# Altium integrated library IRIS-FE-01-B.IntLib: 21 symbols
Pins are listed as number, name and electrical type; pins without a type are passive.

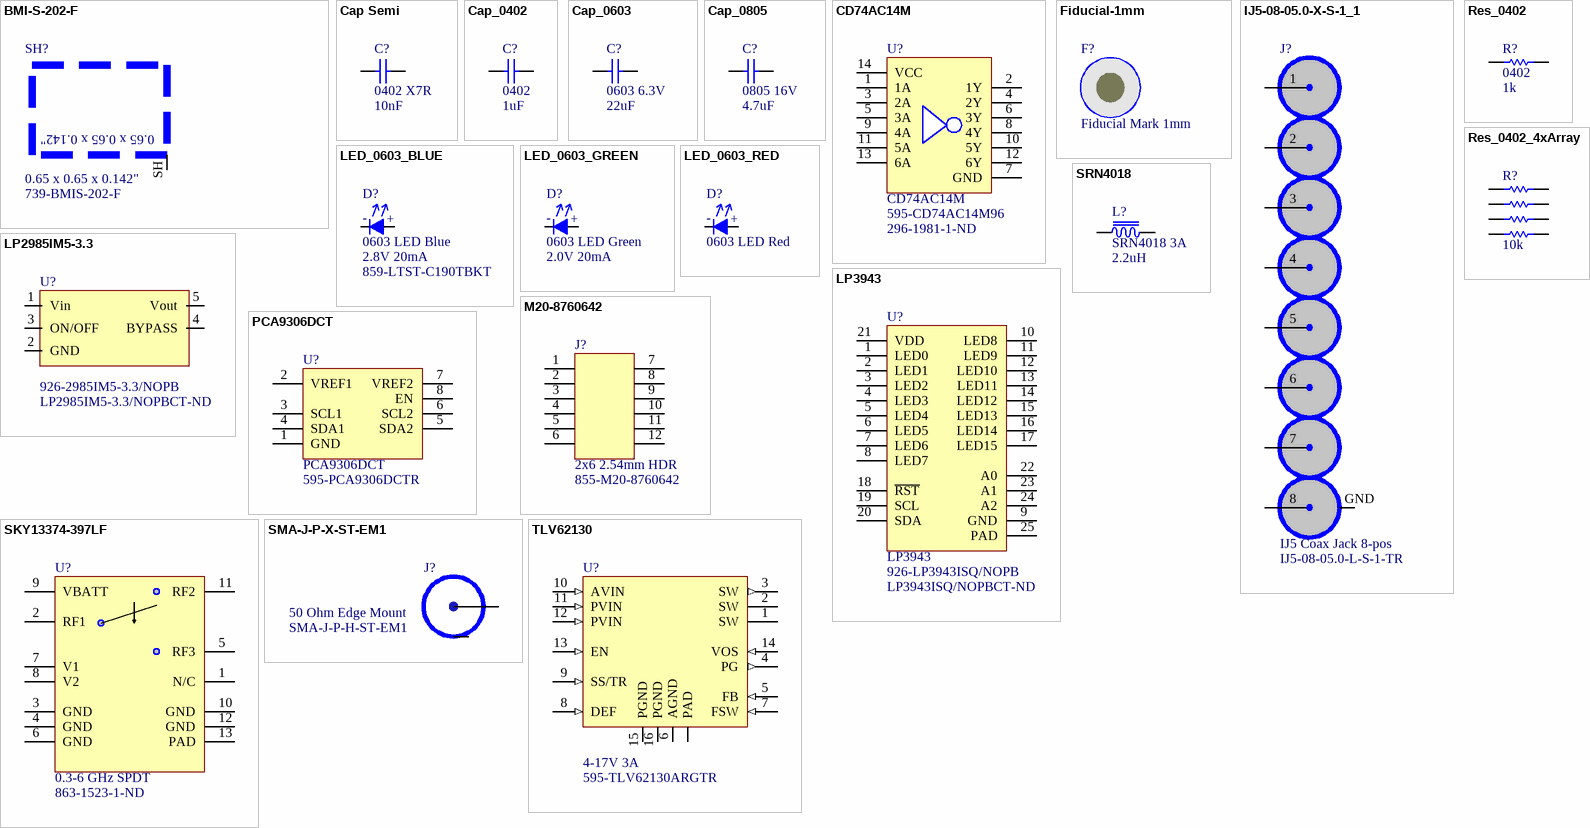
[diagram p0: symbols BMI-S-202-F to TLV62130]

## BMI-S-202-F
designator SH?, comment 0.65 x 0.65 x 0.142"  Supplier Part Number 1: 739-BMIS-202-F
EMI Shield 0.65 x 0.65 x 0.142" LairdTech 2-pc; Supplier 1: Mouser
footprint BMIS-202 (LairdTech BMI-S-202-F Two-piece Shield, 0.65x0.65x0.142")
pins: SH

## Cap Semi
designator C?, comment 0402 X7R  value 10nF
Capacitor (Semiconductor SIM Model); Published: 8-Jun-2000; LatestRevisionDate: 29-May-2009; LatestRevisionNote: IPC-7351 Footprint Added.; PackageReference: C1206; Publisher: Altium Limited; PackageDescription: Chip Capacitor; Supplier 1: Mouser; Supplier Part Number 1: 81-GCM155R71H103KA5D
footprint 0402_SMT_CAP (0402 Chip Cap, Res, Ind)
pins: 1, 2

## Cap_0402
designator C?, comment 0402  value 1uF
0402 SMT Capacitor; Supplier 1: Mouser; Supplier Part Number 1: 81-GRM155R61E105KA2D
footprint 0402_SMT_CAP (0402 Chip Cap, Res, Ind)
pins: 1, 2

## Cap_0603
designator C?, comment 0603 6.3V  value 22uF
0603 SMT Capacitor; Supplier 1: Mouser; Supplier Part Number 1: 81-GRM188R60J226ME0D
footprint 0603_SMT_CAP (0603 Chip Cap)
pins: 1, 2

## Cap_0805
designator C?, comment 0805 16V  value 4.7uF
0805 SMT Capacitor; Supplier 1: Mouser; Supplier Part Number 1: 81-GRJ21BR71C475KE1L
footprint 0805_SMT_CAP (0805 Chip Capacitor)
pins: 1, 2

## CD74AC14M
designator U?  Supplier Part Number 1: 595-CD74AC14M96  Supplier Part Number 2: 296-1981-1-ND
TI Hex Inverter in SOIC; Supplier 1: Mouser; Supplier 2: Digi-Key
footprint TI-SOIC127P600X175-14N (SOIC14 for TI R-PDSO-G14 Pkg, Pitch 1.27mm, IPC Medium Density)
pins: 1 1A, 2 1Y, 3 2A, 4 2Y, 5 3A, 6 3Y, 7 GND, 8 4Y, 9 4A, 10 5Y, 11 5A, 12 6Y, 13 6A, 14 VCC

## Fiducial-1mm
designator F?, comment Fiducial Mark 1mm
footprint 1mm_FIDUCIAL (Fiducial Mark)

## IJ5-08-05.0-X-S-1_1
designator J?, comment IJ5 Coax Jack 8-pos  Manufacturer Part Number 1: IJ5-08-05.0-L-S-1-TR
Samtec 50 Ohm High Isolation RF Jack, 4-pos; Manufacturer 1: Samtec; Supplier 1: Samtec; Supplier Part Number 1: IJ5-08-05.0-L-S-1-TR
footprint IJ5-08-05.0-L-S-1-TR (Samtec 50 Ohm High-Isolation RF Jack, 8-POS, Single Row)
pins: 1, 2, 3, 4, 5, 6, 7, 8, GND

## LED_0603_BLUE
designator D?, comment 0603 LED Blue  value 2.8V 20mA  Supplier Part Number 1: 859-LTST-C190TBKT
0603 LED with Polar Markings; Supplier 1: Mouser
footprint 0603_SMT_LED_Blue (0603 Chip LED with Polar Placement Marks - Blue)
pins: 1 P, 2 N
text: -; +

## LED_0603_GREEN
designator D?, comment 0603 LED Green  value 2.0V 20mA
0603 LED with Polar Markings; Supplier 1: Mouser; Supplier Part Number 1: 859-LTST-C191KGKT
footprint 0603_SMT_LED_Green (0603 Chip LED with Polar Placement Marks - GREEN)
pins: 1 P, 2 N
text: -; +

## LED_0603_RED
designator D?, comment 0603 LED Red
0603 LED with Polar Markings; Value: 2.0V 20mA; Supplier 1: Mouser; Supplier Part Number 1: 859-LTST-C191KRKT
footprint 0603_SMT_LED_Red (0603 Chip LED with Polar Placement Marks - RED)
pins: 1 P, 2 N
text: -; +

## LP2985IM5-3.3
designator U?  Supplier Part Number 1: 926-2985IM5-3.3/NOPB  Supplier Part Number 2: LP2985IM5-3.3/NOPBCT-ND  (hidden comment: LP2985IM5-3.3)
TO LDO 3.3V 150mA Regulator w/ ON/OFF; Supplier 1: Mouser; Supplier 2: Digi-Key
footprint DBV_SOT-23-5 (TI DBV Package for Low-Power Single-Gate Inverter)
pins: 1 Vin, 2 GND, 3 ON/OFF, 4 BYPASS, 5 Vout

## LP3943
designator U?  Supplier Part Number 1: 926-LP3943ISQ/NOPB  Supplier Part Number 2: LP3943ISQ/NOPBCT-ND
TI 16-LED Fun Light Driver with I2C; Supplier 1: Mouser; Supplier 2: Digi-Key
footprint TI-QFN127P600-8N (TI RTW0024C Package for LP3943 LED Driver)
pins: 1 LED0, 2 LED1, 3 LED2, 4 LED3, 5 LED4, 6 LED5, 7 LED6, 8 LED7, 9 GND, 10 LED8, 11 LED9, 12 LED10, 13 LED11, 14 LED12, 15 LED13, 16 LED14, 17 LED15, 18 ~{RST}, 19 SCL, 20 SDA, 21 VDD, 22 A0, 23 A1, 24 A2, 25 PAD

## M20-8760642
designator J?, comment 2x6 2.54mm HDR  Supplier Part Number 1: 855-M20-8760642
Harwin 2.54mm Thru Straight Recepticle; Supplier 1: Mouser
footprint M20-876-350012 (Harwin M20 DIL SMT Straight 2.54mm Header)
pins: 1, 2, 3, 4, 5, 6, 7, 8, 9, 10, 11, 12

## PCA9306DCT
designator U?  Supplier Part Number 1: 595-PCA9306DCTR
TI I2C Bidirectional Voltage Translator; Supplier 1: Mouser
footprint TI-SOP127P600-8N (TI-DCT-R-PDSO-G8 PSOP for TI PCA9306)
pins: 1 GND, 2 VREF1, 3 SCL1, 4 SDA1, 5 SDA2, 6 SCL2, 7 VREF2, 8 EN

## Res_0402
designator R?, comment 0402  value 1k
0402 SMT Resistor; Supplier 1: Mouser; Supplier Part Number 1: 667-ERJ-2RKF1001X
footprint 0402_SMT_RES (0402 Imperial Surface Mount Resistor)
pins: 1, 2

## Res_0402_4xArray
designator R?, comment value 10k  (hidden comment: 0402 Array)
0402 SMT Resistor Array; Supplier 1: Mouser; Supplier Part Number 1: 667-EXB-28V103JX; Supplier 2: Digi-Key; Supplier Part Number 2: Y7103CT-ND
footprint EXB28V (Panasonic 4x0402 Convex Resistor Array)
pins: 1, 2, 3, 4, 5, 6, 7, 8

## SKY13374-397LF
designator U?, comment 0.3-6 GHz SPDT  Supplier Part Number 1: 863-1523-1-ND
300 kHz to 6.0 GHz SPDT Switch 2x2mm QFN; Supplier 1: Digi-Key
footprint SKY13374-397LF-QFN12 (SKY13374-397LF SPDT 2x2mm QFN12)
pins: 1 N/C, 2 RF1, 3 GND, 4 GND, 5 RF3, 6 GND, 7 V1, 8 V2, 9 VBATT, 10 GND, 11 RF2, 12 GND, 13 PAD

## SMA-J-P-X-ST-EM1
designator J?, comment 50 Ohm Edge Mount  Manufacturer Part Number 1: SMA-J-P-H-ST-EM1
Samtec SMA Edge Mount 50 Ohm; Manufacturer 1: Samtec; Supplier 1: Samtec; Supplier Part Number 1: SMA-J-P-H-ST-EM1
footprint SMA-J-P-X-ST-EM1
pins: 1 SIG (power), 2 GND (power)

## SRN4018
designator L?, comment SRN4018 3A  value 2.2uH
SRN4018 Semi-Shielded SMT Power Inductor; Supplier 1: Mouser; Supplier Part Number 1: 652-SRN4018-2R2M
footprint srn4018 (Bourns SRN4018 Series SMT Semi-Shielded Power Inductor)
pins: 1, 2

## TLV62130
designator U?, comment 4-17V 3A  Supplier Part Number 1: 595-TLV62130ARGTR
4-17V 3A Step-Down Voltage Converter; Supplier 1: Mouser
footprint S-PVQFN-N16 (QFN, 16-Leads, Body 3.00x3.00mm, Pitch 0.50mm, Thermal Pad 1.66x1.66mm, IPC Medium Density)
pins: 1 SW, 2 SW, 3 SW (out), 4 PG (out), 5 FB (in), 6 AGND, 7 FSW (in), 8 DEF (in), 9 SS/TR (in), 10 AVIN (in), 11 PVIN (in), 12 PVIN (in), 13 EN (in), 14 VOS (in), 15 PGND, 16 PGND, 17 PAD